# EAGLE library part PUMD2 (library graftel-internal-ic)
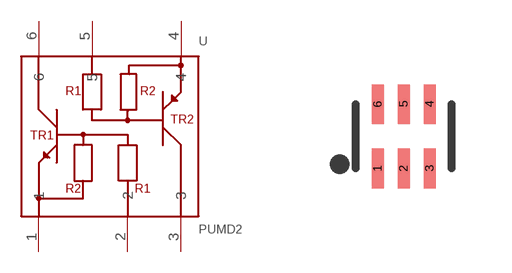
[diagram p17: symbol with the pads of SOT363; footprint SOT363]

Designator prefix U

## PUMD2  [SOT363]
1  1
2  2
3  3
4  4
5  5
6  6

## Footprint SOT363 (pad centres in mm)
smd 0.3 x 0.99: 1 -0.65,-0.8; 2 0,-0.8; 3 0.65,-0.8; 4 0.65,0.81; 5 0,0.81; 6 -0.65,0.81